# Altium footprint library Flash Pmod.PcbLib: 4 footprints
Each footprint in its own frame and in the unit in brackets; x right, y up, seen from the top. Pads: shape width x height; smd on the part's side, far side on the other; paste and mask are expansions set on the pad; w line width, h text height; cw(c..) or ccw(c..) is an arc to the next point about the centre after c.
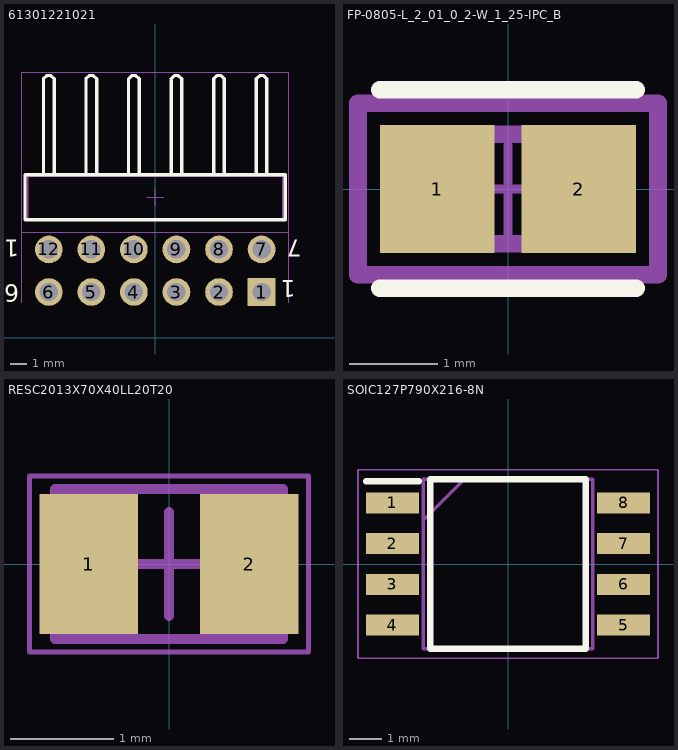
[diagram p0: the footprints below, top view; thin cyan lines are the x and y axes]

## 61301221021 [mm] "Pin Header, pitch 2.54 mm, THT, Angled, dual row, 12p"
height 5.08
pads (12):
  rect 1.65x1.65 hole 1.1: 1(6.35,2.73)
  round 1.65 hole 1.1: 2(3.81,2.73) 3(1.27,2.73) 4(-1.27,2.73) 5(-3.81,2.73) 6(-6.35,2.73) 7(6.35,5.27) 8(3.81,5.27) 9(1.27,5.27) 10(-1.27,5.27) 11(-3.81,5.27) 12(-6.35,5.27)
Top Overlay:
  lines w0.2: -6.67,9.727 -6.67,15.452 -6.47,15.652 -6.23,15.652 -6.03,15.452 -6.03,9.727 ; -4.13,9.727 -4.13,15.452 -3.93,15.652 -3.69,15.652 -3.49,15.452 -3.49,9.727 ; -1.59,9.727 -1.59,15.452 -1.39,15.652 -1.15,15.652 -0.95,15.452 -0.95,9.727 ; 0.95,9.727 0.95,15.452 1.15,15.652 1.39,15.652 1.59,15.452 1.59,9.727 ; 3.49,9.727 3.49,15.452 3.69,15.652 3.93,15.652 4.13,15.452 4.13,9.727 ; 6.03,9.727 6.03,15.452 6.23,15.652 6.47,15.652 6.67,15.452 6.67,9.727 ; -7.77,7.037 7.77,7.037 7.77,9.727 -7.77,9.727 -7.77,7.037
  text "6" at -8.128,3.175 h1.02
  text "12" at -8.128,5.842 h1.02
  text "7" at 8.763,5.842 h1.02
  text "1" at 8.382,3.429 h1.02
Top 3D Body:
  lines w0.1: -6.67,9.652 -6.67,15.452 -6.47,15.652 -6.23,15.652 -6.03,15.452 -6.03,9.652 ; -4.13,9.652 -4.13,15.452 -3.93,15.652 -3.69,15.652 -3.49,15.452 -3.49,9.652 ; -1.59,9.652 -1.59,15.452 -1.39,15.652 -1.15,15.652 -0.95,15.452 -0.95,9.652 ; 0.95,9.652 0.95,15.452 1.15,15.652 1.39,15.652 1.59,15.452 1.59,9.652 ; 3.49,9.652 3.49,15.452 3.69,15.652 3.93,15.652 4.13,15.452 4.13,9.652 ; 6.03,9.652 6.03,15.452 6.23,15.652 6.47,15.652 6.67,15.452 6.67,9.652 ; -7.62,7.112 7.62,7.112 7.62,9.652 -7.62,9.652 -7.62,7.112
Top Courtyard:
  lines w0.05: -7.97,2.087 -7.97,15.852 7.97,15.852 7.97,2.087 ; -7.97,6.295 7.97,6.295 ; -0.5,8.382 0.5,8.382 ; 0,7.882 0,8.882
3D body "61301221021.stp": height 5.12, standoff -2.96, extent -7.62,2.498 7.62,15.398

## FP-0805-L_2_01_0_2-W_1_25-IPC_B [mm]
pads (2):
  rect 1.305x1.456 smd paste+0 mask+0: 1(-0.806,0) 2(0.806,0)
Top Overlay:
  lines w0.2: -1.458,-1.128 1.458,-1.128 ; -1.458,1.128 1.458,1.128
Top Assembly:
  lines w0.2: -1.708,-0.978 -1.708,0.978 1.708,0.978 1.708,-0.978 -1.708,-0.978
  text ".Designator" at 0,0.188 h1
Top 3D Body:
  lines w0.2: -1.005,-0.625 -1.005,0.625 1.005,0.625 1.005,-0.625 -1.005,-0.625
Top Courtyard:
  lines w0.2: -1.708,-0.978 -1.708,0.978 1.708,0.978 1.708,-0.978 -1.708,-0.978
Top Component Center:
  lines w0.1: -0.5,0 0.5,0 ; 0,-0.5 0,0.5
3D body "Cap_AVX_08053C105KAT2A_eec.STEP": height 0.25, standoff 0, extent -1.708,-0.978 1.708,0.978

## RESC2013X70X40LL20T20 [mm] "Chip Resistor, 2-Leads, Body 2.00x1.25mm, IPC High Density"
height 0.7
pads (2):
  rect 0.95x1.35 smd: 1(-0.775,0) 2(0.775,0)
Top 3D Body:
  lines w0.1: -1.1,-0.725 -1.1,0.725 1.1,0.725 1.1,-0.725 -1.1,-0.725
Top Courtyard:
  lines w0.05: -1.35,-0.85 -1.35,0.85 1.35,0.85 1.35,-0.85 -1.35,-0.85
  lines w0.1: -0.5,0 0.5,0 ; 0,-0.5 0,0.5
3D body: height 0.7, standoff 0, extent -0.7,-0.725 0.7,0.725
3D body: height 0.7, standoff 0, extent -1.1,-0.725 -0.7,0.725
3D body: height 0.7, standoff 0, extent 0.7,-0.725 1.1,0.725

## SOIC127P790X216-8N [mm]
pads (8):
  rect 1.65x0.65 smd: 1(-3.6,1.905) 2(-3.6,0.635) 3(-3.6,-0.635) 4(-3.6,-1.905) 5(3.6,-1.905) 6(3.6,-0.635) 7(3.6,0.635) 8(3.6,1.905)
Top Overlay:
  lines w0.2: -4.425,2.58 -2.775,2.58 ; -2.425,-2.64 2.425,-2.64 2.425,2.64 -2.425,2.64 -2.425,-2.64
Top 3D Body:
  lines w0.1: -2.64,1.37 -1.37,2.64 ; -2.64,-2.64 2.64,-2.64 2.64,2.64 -2.64,2.64 -2.64,-2.64
Top Courtyard:
  lines w0.05: -4.675,-2.94 4.675,-2.94 4.675,2.94 -4.675,2.94 -4.675,-2.94
3D body "W25Q128JVSIM_TR.stp": height 2.16, standoff 0, extent -3.95,-2.64 3.95,2.64